# Altium integrated library Dallas Power Mgt Battery.IntLib: 14 symbols
Pins are listed as number, name and electrical type; pins without a type are passive.

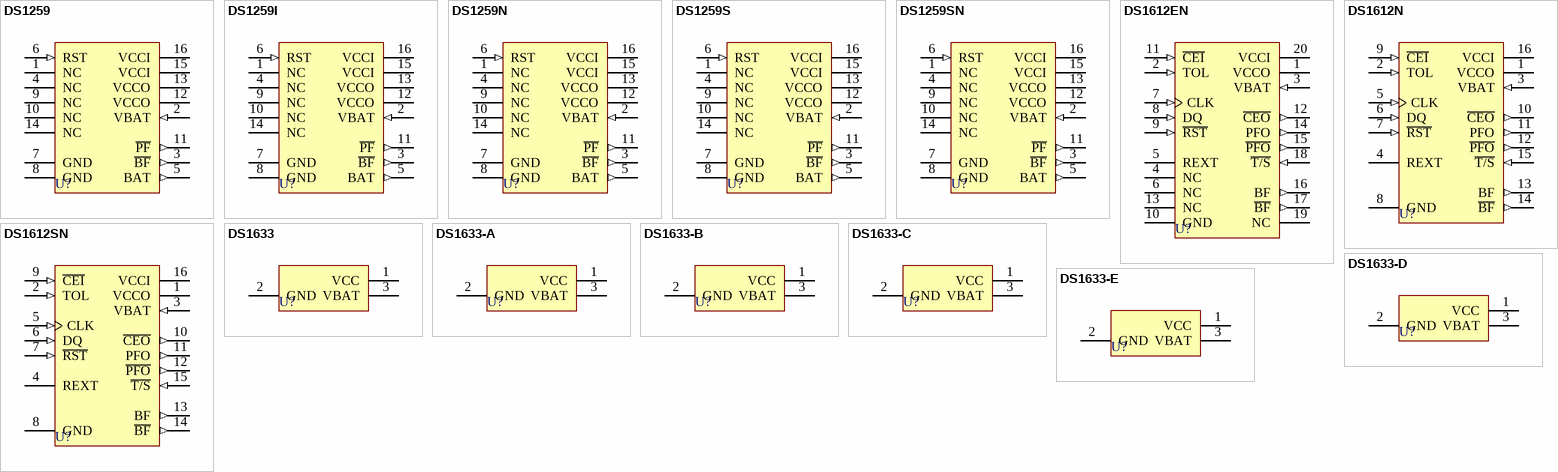
[diagram p0: symbols DS1259 to DS1633-E]

## DS1259
designator U?
Battery Manager Chip; PackageDocument: 1999; Note: Pin numbers 1, 4, 9, 10 and 14 are Not Connected (NC); Published: 13-Oct-2000; LatestRevisionDate: 06-Jun-2005; LatestRevisionNote: Stylized 3D Model Added.; DatasheetDocument: 17-Feb-1998; PackageReference: DIP16; Publisher: Altium Limited; ComponentLink1Description: Manufacturer Link; ComponentLink1URL: http://www.maxim-ic.com/; ComponentLink2Description: Datasheet; ComponentLink2URL: http://pdfserv.maxim-ic.com/en/ds/DS1259.pdf
footprint DIP16 (DIP; 16 Leads; Row Spacing 7.62 mm; Pitch 2.54 mm)
3D model DIP16 (DIP; 16 Leads; Row Spacing 7.62 mm; Pitch 2.54 mm)
pins: 1 NC, 2 VBAT (in), 3 ~{BF} (out), 4 NC, 5 BAT (out), 6 RST (in), 7 GND (power), 8 GND (power), 9 NC, 10 NC, 11 ~{PF} (out), 12 VCCO (power), 13 VCCO (power), 14 NC, 15 VCCI (power), 16 VCCI (power)

## DS1259I
designator U?
Battery Manager Chip; PackageDocument: 1999; Note: Pin numbers 1, 4, 9, 10 and 14 are Not Connected (NC); Published: 13-Oct-2000; LatestRevisionDate: 06-Jun-2005; LatestRevisionNote: Stylized 3D Model Added.; DatasheetDocument: 17-Feb-1998; PackageReference: DIP16; Publisher: Altium Limited; ComponentLink1Description: Manufacturer Link; ComponentLink1URL: http://www.maxim-ic.com/; ComponentLink2Description: Datasheet; ComponentLink2URL: http://pdfserv.maxim-ic.com/en/ds/DS1259.pdf
footprint DIP16 (DIP; 16 Leads; Row Spacing 7.62 mm; Pitch 2.54 mm)
3D model DIP16 (DIP; 16 Leads; Row Spacing 7.62 mm; Pitch 2.54 mm)
pins: 1 NC, 2 VBAT (in), 3 ~{BF} (out), 4 NC, 5 BAT (out), 6 RST (in), 7 GND (power), 8 GND (power), 9 NC, 10 NC, 11 ~{PF} (out), 12 VCCO (power), 13 VCCO (power), 14 NC, 15 VCCI (power), 16 VCCI (power)

## DS1259N
designator U?
Battery Manager Chip; PackageDocument: 1999; Note: Pin numbers 1, 4, 9, 10 and 14 are Not Connected (NC); Published: 13-Oct-2000; LatestRevisionDate: 06-Jun-2005; LatestRevisionNote: Stylized 3D Model Added.; DatasheetDocument: 16-Dec-1991; PackageReference: DIP16; Publisher: Altium Limited; ComponentLink1Description: Manufacturer Link; ComponentLink1URL: http://www.maxim-ic.com/; ComponentLink2Description: Datasheet; ComponentLink2URL: http://pdfserv.maxim-ic.com/en/ds/DS1259_C.pdf
footprint DIP16 (DIP; 16 Leads; Row Spacing 7.62 mm; Pitch 2.54 mm)
3D model DIP16 (DIP; 16 Leads; Row Spacing 7.62 mm; Pitch 2.54 mm)
pins: 1 NC, 2 VBAT (in), 3 ~{BF} (out), 4 NC, 5 BAT (out), 6 RST (in), 7 GND (power), 8 GND (power), 9 NC, 10 NC, 11 ~{PF} (out), 12 VCCO (power), 13 VCCO (power), 14 NC, 15 VCCI (power), 16 VCCI (power)

## DS1259S
designator U?
Battery Manager Chip; PackageDocument: 1999; Note: Pin numbers 1, 4, 9, 10 and 14 are Not Connected (NC); Published: 13-Oct-2000; LatestRevisionDate: 06-Jun-2005; LatestRevisionNote: Stylized 3D Model Added.; DatasheetDocument: 17-Feb-1998; PackageReference: SOIC16W; Publisher: Altium Limited; ComponentLink1Description: Manufacturer Link; ComponentLink1URL: http://www.maxim-ic.com/; ComponentLink2Description: Datasheet; ComponentLink2URL: http://pdfserv.maxim-ic.com/en/ds/DS1259.pdf
footprint SOIC16W (Small Outline; 16 Leads; Body Width 7.5 mm; Pitch 1.27 mm)
3D model SOIC16W (Small Outline; 16 Leads; Body Width 7.5 mm; Pitch 1.27 mm)
pins: 1 NC, 2 VBAT (in), 3 ~{BF} (out), 4 NC, 5 BAT (out), 6 RST (in), 7 GND (power), 8 GND (power), 9 NC, 10 NC, 11 ~{PF} (out), 12 VCCO (power), 13 VCCO (power), 14 NC, 15 VCCI (power), 16 VCCI (power)

## DS1259SN
designator U?
Battery Manager Chip; PackageDocument: 1999; Note: Pin numbers 1, 4, 9, 10 and 14 are Not Connected (NC); Published: 13-Oct-2000; LatestRevisionDate: 06-Jun-2005; LatestRevisionNote: Stylized 3D Model Added.; DatasheetDocument: 17-Feb-1998; PackageReference: SOIC16W; Publisher: Altium Limited; ComponentLink1Description: Manufacturer Link; ComponentLink1URL: http://www.maxim-ic.com/; ComponentLink2Description: Datasheet; ComponentLink2URL: http://pdfserv.maxim-ic.com/en/ds/DS1259.pdf
footprint SOIC16W (Small Outline; 16 Leads; Body Width 7.5 mm; Pitch 1.27 mm)
3D model SOIC16W (Small Outline; 16 Leads; Body Width 7.5 mm; Pitch 1.27 mm)
pins: 1 NC, 2 VBAT (in), 3 ~{BF} (out), 4 NC, 5 BAT (out), 6 RST (in), 7 GND (power), 8 GND (power), 9 NC, 10 NC, 11 ~{PF} (out), 12 VCCO (power), 13 VCCO (power), 14 NC, 15 VCCI (power), 16 VCCI (power)

## DS1612EN
designator U?
Lithium Battery Monitor; Note: Pin numbers 4, 6, 13 and 19 are Not Connected (NC); Published: 13-Oct-2000; LatestRevisionDate: 06-Jun-2005; LatestRevisionNote: Stylized 3D Model Added.; DatasheetDocument: 24-May-1994; PackageReference: TSSOP20; Publisher: Altium Limited; ComponentLink1Description: Manufacturer Link; ComponentLink1URL: http://www.maxim-ic.com/
footprint TSSOP20 (Shrink Small Outline; 20 Leads; Body Width 4.4 mm; Pitch 0.65 mm)
3D model TSSOP20 (Shrink Small Outline; 20 Leads; Body Width 4.4 mm; Pitch 0.65 mm)
pins: 1 VCCO (power), 2 TOL (in), 3 VBAT (in), 4 NC, 5 REXT, 6 NC, 7 CLK (in), 8 DQ (in), 9 ~{RST} (in), 10 GND (power), 11 ~{CEI} (in), 12 ~{CEO} (out), 13 NC, 14 PFO (out), 15 ~{PFO} (out), 16 BF (out), 17 ~{BF} (out), 18 ~{T/S} (in), 19 NC, 20 VCCI (power)

## DS1612N
designator U?
Lithium Battery Monitor; PackageDocument: 1999; Published: 13-Oct-2000; LatestRevisionDate: 06-Jun-2005; LatestRevisionNote: Stylized 3D Model Added.; DatasheetDocument: 24-May-1994; PackageReference: DIP16; Publisher: Altium Limited; ComponentLink1Description: Manufacturer Link; ComponentLink1URL: http://www.maxim-ic.com/
footprint DIP16 (DIP; 16 Leads; Row Spacing 7.62 mm; Pitch 2.54 mm)
3D model DIP16 (DIP; 16 Leads; Row Spacing 7.62 mm; Pitch 2.54 mm)
pins: 1 VCCO (power), 2 TOL (in), 3 VBAT (in), 4 REXT, 5 CLK (in), 6 DQ (in), 7 ~{RST} (in), 8 GND (power), 9 ~{CEI} (in), 10 ~{CEO} (out), 11 PFO (out), 12 ~{PFO} (out), 13 BF (out), 14 ~{BF} (out), 15 ~{T/S} (in), 16 VCCI (power)

## DS1612SN
designator U?
Lithium Battery Monitor; PackageDocument: 1994; Published: 13-Oct-2000; LatestRevisionDate: 06-Jun-2005; LatestRevisionNote: Stylized 3D Model Added.; DatasheetDocument: 24-May-1994; PackageReference: SOIC16WA; Publisher: Altium Limited; ComponentLink1Description: Manufacturer Link; ComponentLink1URL: http://www.maxim-ic.com/
footprint SOIC16WA (Small Outline; 16 Leads; Body Width 7.5 mm; Pitch 1.27 mm)
3D model SOIC16W (Small Outline; 16 Leads; Body Width 7.5 mm; Pitch 1.27 mm)
pins: 1 VCCO (power), 2 TOL (in), 3 VBAT (in), 4 REXT, 5 CLK (in), 6 DQ (in), 7 ~{RST} (in), 8 GND (power), 9 ~{CEI} (in), 10 ~{CEO} (out), 11 PFO (out), 12 ~{PFO} (out), 13 BF (out), 14 ~{BF} (out), 15 ~{T/S} (in), 16 VCCI (power)

## DS1633
designator U?
High-Speed  Battery Recharger; Published: 13-Oct-2000; LatestRevisionDate: 17-Jul-2002; LatestRevisionNote: Re-released for DXP Platform.; DatasheetDocument: 17-Feb-1998; PackageReference: TO-220; Publisher: Altium Limited; ComponentLink1Description: Manufacturer Link; ComponentLink1URL: http://www.maxim-ic.com/
footprint TO-220 (TO, Thru-Hole, Vertical, Heatsink Mounted; 3 In-Line Leads; Pitch 2.54 mm)
pins: 1 VCC (power), 2 GND (power), 3 VBAT (power)

## DS1633-A
designator U?
High-Speed  Battery Charger; Published: 13-Oct-2000; LatestRevisionDate: 17-Jul-2002; LatestRevisionNote: Re-released for DXP Platform.; DatasheetDocument: 17-Feb-1998; PackageReference: TO-220; Publisher: Altium Limited; ComponentLink1Description: Manufacturer Link; ComponentLink1URL: http://www.maxim-ic.com/
footprint TO-220 (TO, Thru-Hole, Vertical, Heatsink Mounted; 3 In-Line Leads; Pitch 2.54 mm)
pins: 1 VCC (power), 2 GND (power), 3 VBAT (power)

## DS1633-B
designator U?
High-Speed  Battery Charger; Published: 13-Oct-2000; LatestRevisionDate: 17-Jul-2002; LatestRevisionNote: Re-released for DXP Platform.; DatasheetDocument: 17-Feb-1998; PackageReference: TO-220; Publisher: Altium Limited; ComponentLink1Description: Manufacturer Link; ComponentLink1URL: http://www.maxim-ic.com/
footprint TO-220 (TO, Thru-Hole, Vertical, Heatsink Mounted; 3 In-Line Leads; Pitch 2.54 mm)
pins: 1 VCC (power), 2 GND (power), 3 VBAT (power)

## DS1633-C
designator U?
High-Speed  Battery Charger; Published: 13-Oct-2000; LatestRevisionDate: 17-Jul-2002; LatestRevisionNote: Re-released for DXP Platform.; DatasheetDocument: 17-Feb-1998; PackageReference: TO-220; Publisher: Altium Limited; ComponentLink1Description: Manufacturer Link; ComponentLink1URL: http://www.maxim-ic.com/
footprint TO-220 (TO, Thru-Hole, Vertical, Heatsink Mounted; 3 In-Line Leads; Pitch 2.54 mm)
pins: 1 VCC (power), 2 GND (power), 3 VBAT (power)

## DS1633-D
designator U?
High-Speed  Battery Charger; Published: 13-Oct-2000; LatestRevisionDate: 17-Jul-2002; LatestRevisionNote: Re-released for DXP Platform.; DatasheetDocument: 17-Feb-1998; PackageReference: TO-220; Publisher: Altium Limited; ComponentLink1Description: Manufacturer Link; ComponentLink1URL: http://www.maxim-ic.com/
footprint TO-220 (TO, Thru-Hole, Vertical, Heatsink Mounted; 3 In-Line Leads; Pitch 2.54 mm)
pins: 1 VCC (power), 2 GND (power), 3 VBAT (power)

## DS1633-E
designator U?
High-Speed  Battery Charger; Published: 13-Oct-2000; LatestRevisionDate: 17-Jul-2002; LatestRevisionNote: Re-released for DXP Platform.; DatasheetDocument: 17-Feb-1998; PackageReference: TO-220; Publisher: Altium Limited; ComponentLink1Description: Manufacturer Link; ComponentLink1URL: http://www.maxim-ic.com/
footprint TO-220 (TO, Thru-Hole, Vertical, Heatsink Mounted; 3 In-Line Leads; Pitch 2.54 mm)
pins: 1 VCC (power), 2 GND (power), 3 VBAT (power)